# Altium schematic symbol library Custom..SchLib: 5 symbols
Pins are listed as number, name and electrical type; pins without a type are passive.

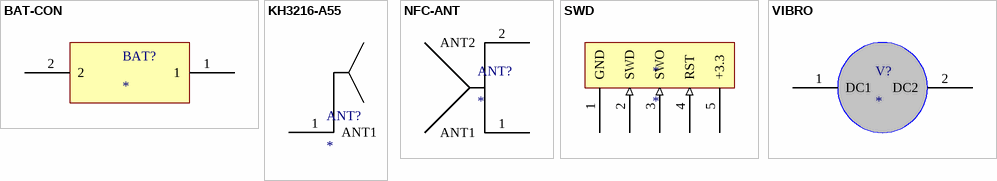
[diagram p0: symbols BAT-CON to VIBRO]

## BAT-CON
designator BAT?
footprint BAT-CON
pins: 1 (power), 2 (power)

## KH3216-A55
designator ANT?
footprint KH3216-A55
pins: 1 ANT1

## NFC-ANT
designator ANT?
footprint NFC-ANT
pins: 1 ANT1, 2 ANT2

## SWD
designator *
footprint PCBComponent_1; pin to pad 4>5 5>4
pins: 1 GND (power), 2 SWD (in), 3 SWO (in), 4 RST (in), 5 +3.3 (power)

## VIBRO
designator V?
footprint VIBRO
pins: 1 DC1, 2 DC2